# EAGLE library part +S42 (library telit-modules)
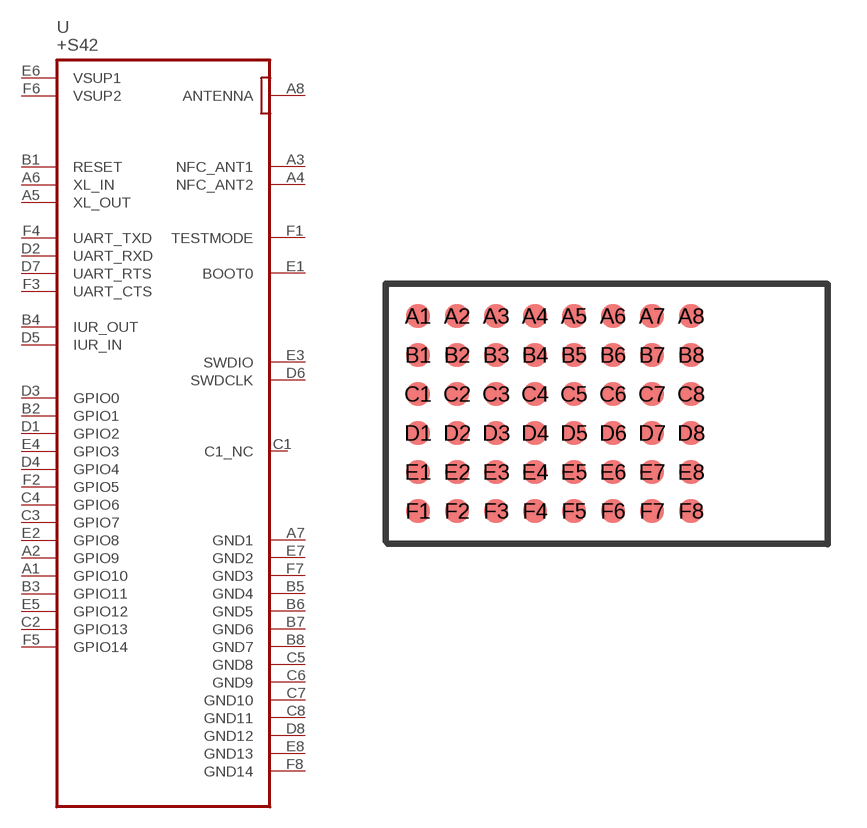
[diagram p11: symbol with the pads of +S42_P; footprint +S42_P]

Designator prefix -

## +S42  [+S42_P]
A1  GPIO10
A2  GPIO9
A3  NFC_ANT1  in
A4  NFC_ANT2  in
A5  XL_OUT  pas
A6  XL_IN  pas
A7  GND1  pwr
A8  ANTENNA  in
B1  RESET  in
B2  GPIO1
B3  GPIO11
B4  IUR_OUT  pas
B5  GND4  pwr
B6  GND5  pwr
B7  GND6  pwr
B8  GND7  pwr
C1  C1_NC  pas
C2  GPIO13
C3  GPIO7
C4  GPIO6
C5  GND8  pwr
C6  GND9  pwr
C7  GND10  pwr
C8  GND11  pwr
D1  GPIO2
D2  UART_RXD  in
D3  GPIO0
D4  GPIO4
D5  IUR_IN  pas
D6  SWDCLK
D7  UART_RTS
D8  GND12  pwr
E1  BOOT0  in
E2  GPIO8
E3  SWDIO
E4  GPIO3
E5  GPIO12
E6  VSUP1  pwr
E7  GND2  pwr
E8  GND13  pwr
F1  TESTMODE  in
F2  GPIO5
F3  UART_CTS
F4  UART_TXD  out
F5  GPIO14
F6  VSUP2  pwr
F7  GND3  pwr
F8  GND14  pwr

## Footprint +S42_P (pad centres in mm)
smd 0.9 x 0.9: A1 -6,4.5; A2 -4.5,4.5; A3 -3,4.5; A4 -1.5,4.5; A5 0,4.5; A6 1.5,4.5; A7 3,4.5; A8 4.5,4.5; B1 -6,3; B2 -4.5,3; B3 -3,3; B4 -1.5,3; B5 0,3; B6 1.5,3; B7 3,3; B8 4.5,3; C1 -6,1.5; C2 -4.5,1.5; C3 -3,1.5; C4 -1.5,1.5; C5 0,1.5; C6 1.5,1.5; C7 3,1.5; C8 4.5,1.5; D1 -6,0; D2 -4.5,0; D3 -3,0; D4 -1.5,0; D5 0,0; D6 1.5,0; D7 3,0; D8 4.5,0; E1 -6,-1.5; E2 -4.5,-1.5; E3 -3,-1.5; E4 -1.5,-1.5; E5 0,-1.5; E6 1.5,-1.5; E7 3,-1.5; E8 4.5,-1.5; F1 -6,-3; F2 -4.5,-3; F3 -3,-3; F4 -1.5,-3; F5 0,-3; F6 1.5,-3; F7 3,-3; F8 4.5,-3